# EAGLE library part TCA8418 (library dadamachines)
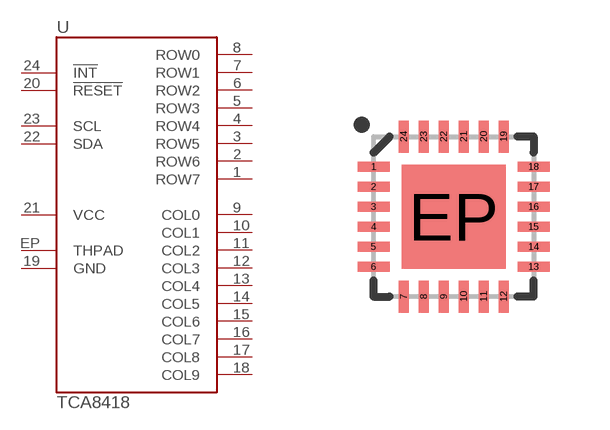
[diagram p9: symbol with the pads of WQFN-24; footprint WQFN-24]

Designator prefix U

## TCA8418WQFN  [WQFN-24]
1  ROW7
2  ROW6
3  ROW5
4  ROW4
5  ROW3
6  ROW2
7  ROW1
8  ROW0
9  COL0
10  COL1
11  COL2
12  COL3
13  COL4
14  COL5
15  COL6
16  COL7
17  COL8
18  COL9
19  GND
20  !RESET
21  VCC
22  SDA
23  SCL
24  !INT
EP  THPAD

## Footprint WQFN-24 (pad centres in mm)
WQFN - 24 Pin Specifications: Pin count: 24 Datasheet referenced for footprint <http://www.ti.com/lit/ds/symlink/lp55231.pdf> Example device(s): LP55231
smd 0.8 x 0.25: 1 -2,1.25; 2 -2,0.75; 3 -2,0.25; 4 -2,-0.25; 5 -2,-0.75; 6 -2,-1.25; 13 2,-1.25; 14 2,-0.75; 15 2,-0.25; 16 2,0.25; 17 2,0.75; 18 2,1.25
smd 0.25 x 0.8: 7 -1.25,-2; 8 -0.75,-2; 9 -0.25,-2; 10 0.25,-2; 11 0.75,-2; 12 1.25,-2; 19 1.25,2; 20 0.75,2; 21 0.25,2; 22 -0.25,2; 23 -0.75,2; 24 -1.25,2
smd 2.6 x 2.6: EP 0,0